# EAGLE library part 15POSD-SUB (library UpBoard B)
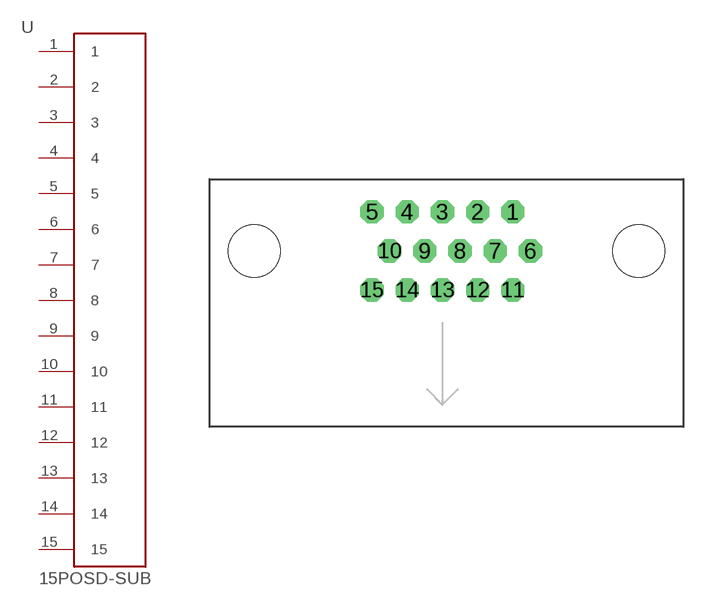
[diagram p5: symbol with the pads of 15POSD-SUB; footprint 15POSD-SUB]

Designator prefix -

## 15POSD-SUB  [15POSD-SUB]
1  1
2  2
3  3
4  4
5  5
6  6
7  7
8  8
9  9
10  10
11  11
12  12
13  13
14  14
15  15

## Footprint 15POSD-SUB (pad centres in mm)
drill 1 octagon: 1 4.58,2.54; 2 2.29,2.54; 3 0,2.54; 4 -2.29,2.54; 5 -4.58,2.54; 6 5.725,0; 7 3.435,0; 8 1.145,0; 9 -1.145,0; 10 -3.435,0; 11 4.58,-2.54; 12 2.29,-2.54; 13 0,-2.54; 14 -2.29,-2.54; 15 -4.58,-2.54
hole 3.4 at 12.765,0
hole 3.4 at -12.235,0